# Altium integrated library Linear Technology Power Management Power Control.IntLib: 661 symbols (part 14 of 43)
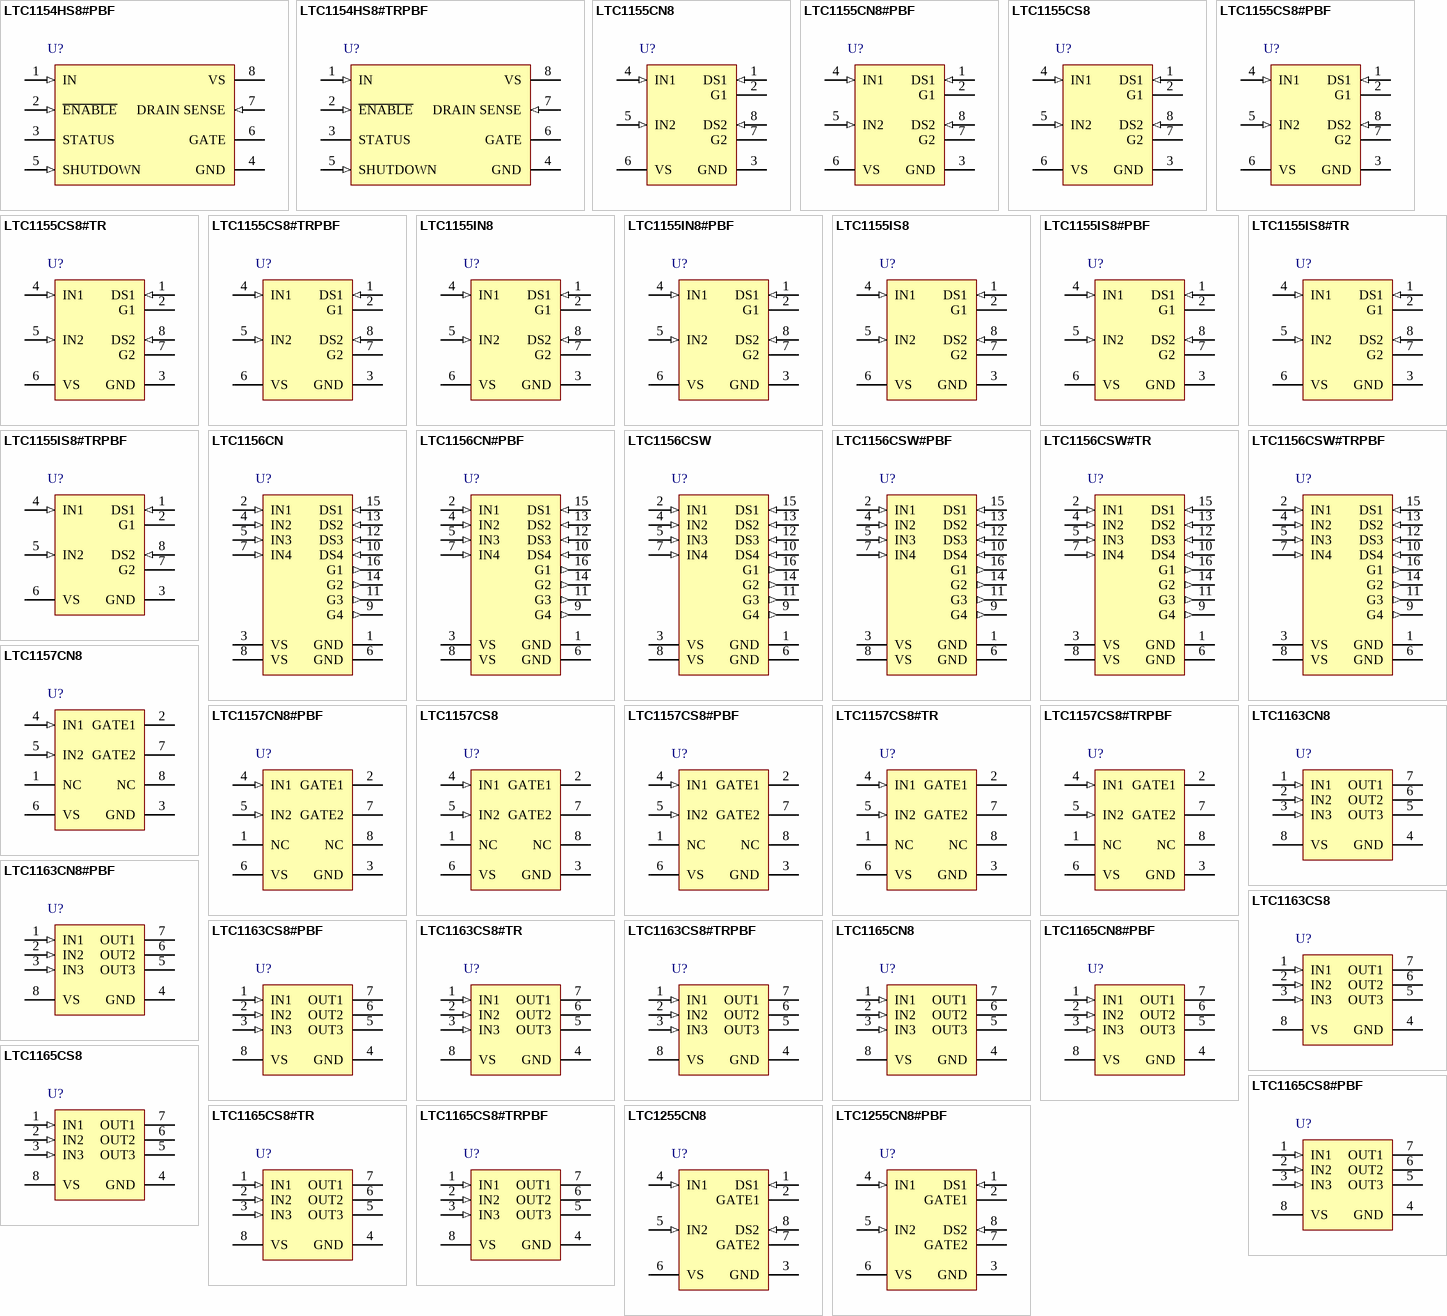
[diagram p32: symbols LTC1154HS8#PBF to LTC1255CN8#PBF]

## LTC1157CS8#TR
designator U?
3.3 V Dual Micropower High-Side / Low-Side MOSFET Driver, 7 V Vin MAX, 8-pin SOIC (S8-8), 0 to 70 degC, Tape and Reel; Manufacturer: Linear Technology; PartNumber: LTC1157CS8#TR; DatasheetVersion: Rev. 0; PackageVersion: Rev. G, 03/2012; PackageReference: S8-8; PackageDescription: 8-Pin Plastic Small Outline (Narrow .150 Inch), Body 4.9 x 3.9 mm, Pitch 1.27 mm; Supplier 1: Digi-Key; Supplier Part Number 1: LTC1157CS8#TR-ND; Packing: Tape and Reel; RoHS: FALSE; Mounting Technology: Surface Mount; ComponentLink1Description: Manufacturer URL; ComponentLink1URL: http://www.linear.com/; ComponentLink2Description: Datasheet; ComponentLink2URL: http://cds.linear.com/docs/en/datasheet/lt1157.pdf; ComponentLink3Description: Package Specification; ComponentLink3URL: http://cds.linear.com/docs/en/packaging/05081610_G_SO8.pdf
footprint LT-S8-8_N (SOIC, 8-Leads, Body 5x4mm, Pitch 1.27mm, IPC Medium Density)
footprint LT-S8-8_L (SOIC, 8-Leads, Body 5x4mm, Pitch 1.27mm, IPC High Density)
footprint LT-S8-8_M (SOIC, 8-Leads, Body 5x4mm, Pitch 1.27mm, IPC Low Density)
pins: 1 NC "The drain sense pin is compared against the supply pin voltage. If the voltage at this pin is more than 100mV below the supply pin, the input latch will be reset and the MOSFET gate will be quickly discharged. Cycle the (See Datasheet)", 2 GATE1 (hiz) "The gate drive pin is either driven to ground when the switch is turned OFF or driven above the supply rail when the switch is turned ON. This pin is a relatively high impedance when driven above the rail (the equivalent of (See Datasheet)", 3 GND (power), 4 IN1 (in) "The LTC1157 input pins are active high and activate the charge pump circuitry when switched ON. The LTC1157 logic inputs are high impedance CMOS gates with ESD protection diodes to ground and supply and therefore should not (See Datasheet)", 5 IN2 (in) "The LTC1157 input pins are active high and activate the charge pump circuitry when switched ON. The LTC1157 logic inputs are high impedance CMOS gates with ESD protection diodes to ground and supply and therefore should not (See Datasheet)", 6 VS (power) "The supply pin of the LTC1157 should never be forced below ground as this may result in permanent damage to the device. A 300 ohm resistor should be inserted in series with the ground pin if negative supply voltage (See Datasheet)", 7 GATE2 (hiz) "The gate drive pin is either driven to ground when the switch is turned OFF or driven above the supply rail when the switch is turned ON. This pin is a relatively high impedance when driven above the rail (the equivalent of (See Datasheet)", 8 NC "The drain sense pin is compared against the supply pin voltage. If the voltage at this pin is more than 100mV below the supply pin, the input latch will be reset and the MOSFET gate will be quickly discharged. Cycle the (See Datasheet)"

## LTC1157CS8#TRPBF
designator U?
3.3 V Dual Micropower High-Side / Low-Side MOSFET Driver, 7 V Vin MAX, 8-pin SOIC (S8-8), 0 to 70 degC, Pb-Free, Tape and Reel; Manufacturer: Linear Technology; PartNumber: LTC1157CS8#TRPBF; DatasheetVersion: Rev. 0; PackageVersion: Rev. G, 03/2012; PackageReference: S8-8; PackageDescription: 8-Pin Plastic Small Outline (Narrow .150 Inch), Body 4.9 x 3.9 mm, Pitch 1.27 mm; Supplier 1: Digi-Key; Supplier Part Number 1: LTC1157CS8#TRPBF-ND; Packing: Tape and Reel; RoHS: TRUE; Mounting Technology: Surface Mount; ComponentLink1Description: Manufacturer URL; ComponentLink1URL: http://www.linear.com/; ComponentLink2Description: Datasheet; ComponentLink2URL: http://cds.linear.com/docs/en/datasheet/lt1157.pdf; ComponentLink3Description: Package Specification; ComponentLink3URL: http://cds.linear.com/docs/en/packaging/05081610_G_SO8.pdf
footprint LT-S8-8_N (SOIC, 8-Leads, Body 5x4mm, Pitch 1.27mm, IPC Medium Density)
footprint LT-S8-8_L (SOIC, 8-Leads, Body 5x4mm, Pitch 1.27mm, IPC High Density)
footprint LT-S8-8_M (SOIC, 8-Leads, Body 5x4mm, Pitch 1.27mm, IPC Low Density)
pins: 1 NC "The drain sense pin is compared against the supply pin voltage. If the voltage at this pin is more than 100mV below the supply pin, the input latch will be reset and the MOSFET gate will be quickly discharged. Cycle the (See Datasheet)", 2 GATE1 (hiz) "The gate drive pin is either driven to ground when the switch is turned OFF or driven above the supply rail when the switch is turned ON. This pin is a relatively high impedance when driven above the rail (the equivalent of (See Datasheet)", 3 GND (power), 4 IN1 (in) "The LTC1157 input pins are active high and activate the charge pump circuitry when switched ON. The LTC1157 logic inputs are high impedance CMOS gates with ESD protection diodes to ground and supply and therefore should not (See Datasheet)", 5 IN2 (in) "The LTC1157 input pins are active high and activate the charge pump circuitry when switched ON. The LTC1157 logic inputs are high impedance CMOS gates with ESD protection diodes to ground and supply and therefore should not (See Datasheet)", 6 VS (power) "The supply pin of the LTC1157 should never be forced below ground as this may result in permanent damage to the device. A 300 ohm resistor should be inserted in series with the ground pin if negative supply voltage (See Datasheet)", 7 GATE2 (hiz) "The gate drive pin is either driven to ground when the switch is turned OFF or driven above the supply rail when the switch is turned ON. This pin is a relatively high impedance when driven above the rail (the equivalent of (See Datasheet)", 8 NC "The drain sense pin is compared against the supply pin voltage. If the voltage at this pin is more than 100mV below the supply pin, the input latch will be reset and the MOSFET gate will be quickly discharged. Cycle the (See Datasheet)"

## LTC1163CN8
designator U?
Triple High-Side MOSFET Driver, 6 V Vin MAX, 8-pin DIP (N8-8), 0 to 70 degC; Manufacturer: Linear Technology; PartNumber: LTC1163CN8; DatasheetVersion: Rev. 0; PackageVersion: Rev. I, 07/2011; PackageReference: N8-8; PackageDescription: 8-Pin PDIP, Body 10.16 x 6.48 mm, Pitch 2.54 mm; RoHS: FALSE; Mounting Technology: Through Hole; ComponentLink1Description: Manufacturer URL; ComponentLink1URL: http://www.linear.com/; ComponentLink2Description: Datasheet; ComponentLink2URL: http://cds.linear.com/docs/en/datasheet/lt1163.pdf; ComponentLink3Description: Package Specification; ComponentLink3URL: http://www.linear.com/docs/en/packaging/05081510_I_N8.pdf
footprint LT-N8-8 (DIP, 8-Leads, Body 10.15x6.85mm, Pitch 2.54mm)
pins: 1 IN1 (in) "The LTC1163 is noninverting; i.e., the MOSFET gate is driven above the supply when the input pin is held high. The LTC1165 is inverting and drives the MOSFET gate high when the input pin is held low. The inverting inputs of (See Datasheet)", 2 IN2 (in) "The LTC1163 is noninverting; i.e., the MOSFET gate is driven above the supply when the input pin is held high. The LTC1165 is inverting and drives the MOSFET gate high when the input pin is held low. The inverting inputs of (See Datasheet)", 3 IN3 (in) "The LTC1163 is noninverting; i.e., the MOSFET gate is driven above the supply when the input pin is held high. The LTC1165 is inverting and drives the MOSFET gate high when the input pin is held low. The inverting inputs of (See Datasheet)", 4 GND (power) "A 150ohm resistor should be inserted in series with the ground pin or supply pin if negative supply voltage transients are anticipated. This will limit the current flowing from the power source into the LTC1163/LTC1165 to (See Datasheet)", 5 OUT3 (hiz) "The output pin is either driven to ground when the switch is turned OFF or driven above the supply rail when the switch is turned ON. The output is clamped to about 14V above ground by a built-in Zener clamp. This pin has a (See Datasheet)", 6 OUT2 (hiz) "The output pin is either driven to ground when the switch is turned OFF or driven above the supply rail when the switch is turned ON. The output is clamped to about 14V above ground by a built-in Zener clamp. This pin has a (See Datasheet)", 7 OUT1 (hiz) "The output pin is either driven to ground when the switch is turned OFF or driven above the supply rail when the switch is turned ON. The output is clamped to about 14V above ground by a built-in Zener clamp. This pin has a (See Datasheet)", 8 VS (power) "A 150ohm resistor should be inserted in series with the ground pin or supply pin if negative supply voltage transients are anticipated. This will limit the current flowing from the power source into the LTC1163/LTC1165 to (See Datasheet)"

## LTC1163CN8#PBF
designator U?
Triple High-Side MOSFET Driver, 6 V Vin MAX, 8-pin DIP (N8-8), 0 to 70 degC, Pb-Free; Manufacturer: Linear Technology; PartNumber: LTC1163CN8#PBF; DatasheetVersion: Rev. 0; PackageVersion: Rev. I, 07/2011; PackageReference: N8-8; PackageDescription: 8-Pin PDIP, Body 10.16 x 6.48 mm, Pitch 2.54 mm; Supplier 1: Digi-Key; Supplier Part Number 1: LTC1163CN8#PBF-ND; RoHS: TRUE; Mounting Technology: Through Hole; ComponentLink1Description: Manufacturer URL; ComponentLink1URL: http://www.linear.com/; ComponentLink2Description: Datasheet; ComponentLink2URL: http://cds.linear.com/docs/en/datasheet/lt1163.pdf; ComponentLink3Description: Package Specification; ComponentLink3URL: http://www.linear.com/docs/en/packaging/05081510_I_N8.pdf
footprint LT-N8-8 (DIP, 8-Leads, Body 10.15x6.85mm, Pitch 2.54mm)
pins: 1 IN1 (in) "The LTC1163 is noninverting; i.e., the MOSFET gate is driven above the supply when the input pin is held high. The LTC1165 is inverting and drives the MOSFET gate high when the input pin is held low. The inverting inputs of (See Datasheet)", 2 IN2 (in) "The LTC1163 is noninverting; i.e., the MOSFET gate is driven above the supply when the input pin is held high. The LTC1165 is inverting and drives the MOSFET gate high when the input pin is held low. The inverting inputs of (See Datasheet)", 3 IN3 (in) "The LTC1163 is noninverting; i.e., the MOSFET gate is driven above the supply when the input pin is held high. The LTC1165 is inverting and drives the MOSFET gate high when the input pin is held low. The inverting inputs of (See Datasheet)", 4 GND (power) "A 150ohm resistor should be inserted in series with the ground pin or supply pin if negative supply voltage transients are anticipated. This will limit the current flowing from the power source into the LTC1163/LTC1165 to (See Datasheet)", 5 OUT3 (hiz) "The output pin is either driven to ground when the switch is turned OFF or driven above the supply rail when the switch is turned ON. The output is clamped to about 14V above ground by a built-in Zener clamp. This pin has a (See Datasheet)", 6 OUT2 (hiz) "The output pin is either driven to ground when the switch is turned OFF or driven above the supply rail when the switch is turned ON. The output is clamped to about 14V above ground by a built-in Zener clamp. This pin has a (See Datasheet)", 7 OUT1 (hiz) "The output pin is either driven to ground when the switch is turned OFF or driven above the supply rail when the switch is turned ON. The output is clamped to about 14V above ground by a built-in Zener clamp. This pin has a (See Datasheet)", 8 VS (power) "A 150ohm resistor should be inserted in series with the ground pin or supply pin if negative supply voltage transients are anticipated. This will limit the current flowing from the power source into the LTC1163/LTC1165 to (See Datasheet)"

## LTC1163CS8
designator U?
Triple High-Side MOSFET Driver, 6 V Vin MAX, 8-pin SOIC (S8-8), 0 to 70 degC; Manufacturer: Linear Technology; PartNumber: LTC1163CS8; DatasheetVersion: Rev. 0; PackageVersion: Rev. G, 03/2012; PackageReference: S8-8; PackageDescription: 8-Pin Plastic Small Outline (Narrow .150 Inch), Body 4.9 x 3.9 mm, Pitch 1.27 mm; Supplier 1: Digi-Key; Supplier Part Number 1: LTC1163CS8-ND; RoHS: FALSE; Mounting Technology: Surface Mount; ComponentLink1Description: Manufacturer URL; ComponentLink1URL: http://www.linear.com/; ComponentLink2Description: Datasheet; ComponentLink2URL: http://cds.linear.com/docs/en/datasheet/lt1163.pdf; ComponentLink3Description: Package Specification; ComponentLink3URL: http://cds.linear.com/docs/en/packaging/05081610_G_SO8.pdf
footprint LT-S8-8_N (SOIC, 8-Leads, Body 5x4mm, Pitch 1.27mm, IPC Medium Density)
footprint LT-S8-8_L (SOIC, 8-Leads, Body 5x4mm, Pitch 1.27mm, IPC High Density)
footprint LT-S8-8_M (SOIC, 8-Leads, Body 5x4mm, Pitch 1.27mm, IPC Low Density)
pins: 1 IN1 (in) "The LTC1163 is noninverting; i.e., the MOSFET gate is driven above the supply when the input pin is held high. The LTC1165 is inverting and drives the MOSFET gate high when the input pin is held low. The inverting inputs of (See Datasheet)", 2 IN2 (in) "The LTC1163 is noninverting; i.e., the MOSFET gate is driven above the supply when the input pin is held high. The LTC1165 is inverting and drives the MOSFET gate high when the input pin is held low. The inverting inputs of (See Datasheet)", 3 IN3 (in) "The LTC1163 is noninverting; i.e., the MOSFET gate is driven above the supply when the input pin is held high. The LTC1165 is inverting and drives the MOSFET gate high when the input pin is held low. The inverting inputs of (See Datasheet)", 4 GND (power) "A 150ohm resistor should be inserted in series with the ground pin or supply pin if negative supply voltage transients are anticipated. This will limit the current flowing from the power source into the LTC1163/LTC1165 to (See Datasheet)", 5 OUT3 (hiz) "The output pin is either driven to ground when the switch is turned OFF or driven above the supply rail when the switch is turned ON. The output is clamped to about 14V above ground by a built-in Zener clamp. This pin has a (See Datasheet)", 6 OUT2 (hiz) "The output pin is either driven to ground when the switch is turned OFF or driven above the supply rail when the switch is turned ON. The output is clamped to about 14V above ground by a built-in Zener clamp. This pin has a (See Datasheet)", 7 OUT1 (hiz) "The output pin is either driven to ground when the switch is turned OFF or driven above the supply rail when the switch is turned ON. The output is clamped to about 14V above ground by a built-in Zener clamp. This pin has a (See Datasheet)", 8 VS (power) "A 150ohm resistor should be inserted in series with the ground pin or supply pin if negative supply voltage transients are anticipated. This will limit the current flowing from the power source into the LTC1163/LTC1165 to (See Datasheet)"

## LTC1163CS8#PBF
designator U?
Triple High-Side MOSFET Driver, 6 V Vin MAX, 8-pin SOIC (S8-8), 0 to 70 degC, Pb-Free; Manufacturer: Linear Technology; PartNumber: LTC1163CS8#PBF; DatasheetVersion: Rev. 0; PackageVersion: Rev. G, 03/2012; PackageReference: S8-8; PackageDescription: 8-Pin Plastic Small Outline (Narrow .150 Inch), Body 4.9 x 3.9 mm, Pitch 1.27 mm; Supplier 1: Digi-Key; Supplier Part Number 1: LTC1163CS8#PBF-ND; Supplier 2: Farnell; Supplier Part Number 2: 1273509; Supplier 3: Newark; Supplier Part Number 3: 55M9501; RoHS: TRUE; Mounting Technology: Surface Mount; ComponentLink1Description: Manufacturer URL; ComponentLink1URL: http://www.linear.com/; ComponentLink2Description: Datasheet; ComponentLink2URL: http://cds.linear.com/docs/en/datasheet/lt1163.pdf; ComponentLink3Description: Package Specification; ComponentLink3URL: http://cds.linear.com/docs/en/packaging/05081610_G_SO8.pdf
footprint LT-S8-8_N (SOIC, 8-Leads, Body 5x4mm, Pitch 1.27mm, IPC Medium Density)
footprint LT-S8-8_L (SOIC, 8-Leads, Body 5x4mm, Pitch 1.27mm, IPC High Density)
footprint LT-S8-8_M (SOIC, 8-Leads, Body 5x4mm, Pitch 1.27mm, IPC Low Density)
pins: 1 IN1 (in) "The LTC1163 is noninverting; i.e., the MOSFET gate is driven above the supply when the input pin is held high. The LTC1165 is inverting and drives the MOSFET gate high when the input pin is held low. The inverting inputs of (See Datasheet)", 2 IN2 (in) "The LTC1163 is noninverting; i.e., the MOSFET gate is driven above the supply when the input pin is held high. The LTC1165 is inverting and drives the MOSFET gate high when the input pin is held low. The inverting inputs of (See Datasheet)", 3 IN3 (in) "The LTC1163 is noninverting; i.e., the MOSFET gate is driven above the supply when the input pin is held high. The LTC1165 is inverting and drives the MOSFET gate high when the input pin is held low. The inverting inputs of (See Datasheet)", 4 GND (power) "A 150ohm resistor should be inserted in series with the ground pin or supply pin if negative supply voltage transients are anticipated. This will limit the current flowing from the power source into the LTC1163/LTC1165 to (See Datasheet)", 5 OUT3 (hiz) "The output pin is either driven to ground when the switch is turned OFF or driven above the supply rail when the switch is turned ON. The output is clamped to about 14V above ground by a built-in Zener clamp. This pin has a (See Datasheet)", 6 OUT2 (hiz) "The output pin is either driven to ground when the switch is turned OFF or driven above the supply rail when the switch is turned ON. The output is clamped to about 14V above ground by a built-in Zener clamp. This pin has a (See Datasheet)", 7 OUT1 (hiz) "The output pin is either driven to ground when the switch is turned OFF or driven above the supply rail when the switch is turned ON. The output is clamped to about 14V above ground by a built-in Zener clamp. This pin has a (See Datasheet)", 8 VS (power) "A 150ohm resistor should be inserted in series with the ground pin or supply pin if negative supply voltage transients are anticipated. This will limit the current flowing from the power source into the LTC1163/LTC1165 to (See Datasheet)"

## LTC1163CS8#TR
designator U?
Triple High-Side MOSFET Driver, 6 V Vin MAX, 8-pin SOIC (S8-8), 0 to 70 degC, Tape and Reel; Manufacturer: Linear Technology; PartNumber: LTC1163CS8#TR; DatasheetVersion: Rev. 0; PackageVersion: Rev. G, 03/2012; PackageReference: S8-8; PackageDescription: 8-Pin Plastic Small Outline (Narrow .150 Inch), Body 4.9 x 3.9 mm, Pitch 1.27 mm; Supplier 1: Digi-Key; Supplier Part Number 1: LTC1163CS8#TR-ND; Packing: Tape and Reel; RoHS: FALSE; Mounting Technology: Surface Mount; ComponentLink1Description: Manufacturer URL; ComponentLink1URL: http://www.linear.com/; ComponentLink2Description: Datasheet; ComponentLink2URL: http://cds.linear.com/docs/en/datasheet/lt1163.pdf; ComponentLink3Description: Package Specification; ComponentLink3URL: http://cds.linear.com/docs/en/packaging/05081610_G_SO8.pdf
footprint LT-S8-8_N (SOIC, 8-Leads, Body 5x4mm, Pitch 1.27mm, IPC Medium Density)
footprint LT-S8-8_L (SOIC, 8-Leads, Body 5x4mm, Pitch 1.27mm, IPC High Density)
footprint LT-S8-8_M (SOIC, 8-Leads, Body 5x4mm, Pitch 1.27mm, IPC Low Density)
pins: 1 IN1 (in) "The LTC1163 is noninverting; i.e., the MOSFET gate is driven above the supply when the input pin is held high. The LTC1165 is inverting and drives the MOSFET gate high when the input pin is held low. The inverting inputs of (See Datasheet)", 2 IN2 (in) "The LTC1163 is noninverting; i.e., the MOSFET gate is driven above the supply when the input pin is held high. The LTC1165 is inverting and drives the MOSFET gate high when the input pin is held low. The inverting inputs of (See Datasheet)", 3 IN3 (in) "The LTC1163 is noninverting; i.e., the MOSFET gate is driven above the supply when the input pin is held high. The LTC1165 is inverting and drives the MOSFET gate high when the input pin is held low. The inverting inputs of (See Datasheet)", 4 GND (power) "A 150ohm resistor should be inserted in series with the ground pin or supply pin if negative supply voltage transients are anticipated. This will limit the current flowing from the power source into the LTC1163/LTC1165 to (See Datasheet)", 5 OUT3 (hiz) "The output pin is either driven to ground when the switch is turned OFF or driven above the supply rail when the switch is turned ON. The output is clamped to about 14V above ground by a built-in Zener clamp. This pin has a (See Datasheet)", 6 OUT2 (hiz) "The output pin is either driven to ground when the switch is turned OFF or driven above the supply rail when the switch is turned ON. The output is clamped to about 14V above ground by a built-in Zener clamp. This pin has a (See Datasheet)", 7 OUT1 (hiz) "The output pin is either driven to ground when the switch is turned OFF or driven above the supply rail when the switch is turned ON. The output is clamped to about 14V above ground by a built-in Zener clamp. This pin has a (See Datasheet)", 8 VS (power) "A 150ohm resistor should be inserted in series with the ground pin or supply pin if negative supply voltage transients are anticipated. This will limit the current flowing from the power source into the LTC1163/LTC1165 to (See Datasheet)"

## LTC1163CS8#TRPBF
designator U?
Triple High-Side MOSFET Driver, 6 V Vin MAX, 8-pin SOIC (S8-8), 0 to 70 degC, Pb-Free, Tape and Reel; Manufacturer: Linear Technology; PartNumber: LTC1163CS8#TRPBF; DatasheetVersion: Rev. 0; PackageVersion: Rev. G, 03/2012; PackageReference: S8-8; PackageDescription: 8-Pin Plastic Small Outline (Narrow .150 Inch), Body 4.9 x 3.9 mm, Pitch 1.27 mm; Supplier 1: Digi-Key; Supplier Part Number 1: LTC1163CS8#TRPBF-ND; Packing: Tape and Reel; RoHS: TRUE; Mounting Technology: Surface Mount; ComponentLink1Description: Manufacturer URL; ComponentLink1URL: http://www.linear.com/; ComponentLink2Description: Datasheet; ComponentLink2URL: http://cds.linear.com/docs/en/datasheet/lt1163.pdf; ComponentLink3Description: Package Specification; ComponentLink3URL: http://cds.linear.com/docs/en/packaging/05081610_G_SO8.pdf
footprint LT-S8-8_N (SOIC, 8-Leads, Body 5x4mm, Pitch 1.27mm, IPC Medium Density)
footprint LT-S8-8_L (SOIC, 8-Leads, Body 5x4mm, Pitch 1.27mm, IPC High Density)
footprint LT-S8-8_M (SOIC, 8-Leads, Body 5x4mm, Pitch 1.27mm, IPC Low Density)
pins: 1 IN1 (in) "The LTC1163 is noninverting; i.e., the MOSFET gate is driven above the supply when the input pin is held high. The LTC1165 is inverting and drives the MOSFET gate high when the input pin is held low. The inverting inputs of (See Datasheet)", 2 IN2 (in) "The LTC1163 is noninverting; i.e., the MOSFET gate is driven above the supply when the input pin is held high. The LTC1165 is inverting and drives the MOSFET gate high when the input pin is held low. The inverting inputs of (See Datasheet)", 3 IN3 (in) "The LTC1163 is noninverting; i.e., the MOSFET gate is driven above the supply when the input pin is held high. The LTC1165 is inverting and drives the MOSFET gate high when the input pin is held low. The inverting inputs of (See Datasheet)", 4 GND (power) "A 150ohm resistor should be inserted in series with the ground pin or supply pin if negative supply voltage transients are anticipated. This will limit the current flowing from the power source into the LTC1163/LTC1165 to (See Datasheet)", 5 OUT3 (hiz) "The output pin is either driven to ground when the switch is turned OFF or driven above the supply rail when the switch is turned ON. The output is clamped to about 14V above ground by a built-in Zener clamp. This pin has a (See Datasheet)", 6 OUT2 (hiz) "The output pin is either driven to ground when the switch is turned OFF or driven above the supply rail when the switch is turned ON. The output is clamped to about 14V above ground by a built-in Zener clamp. This pin has a (See Datasheet)", 7 OUT1 (hiz) "The output pin is either driven to ground when the switch is turned OFF or driven above the supply rail when the switch is turned ON. The output is clamped to about 14V above ground by a built-in Zener clamp. This pin has a (See Datasheet)", 8 VS (power) "A 150ohm resistor should be inserted in series with the ground pin or supply pin if negative supply voltage transients are anticipated. This will limit the current flowing from the power source into the LTC1163/LTC1165 to (See Datasheet)"

## LTC1165CN8
designator U?
Operates from 2 Cells, P-Channel Replacement, 6 V Vin MAX, 8-pin DIP (N8-8), 0 to 70 degC; Manufacturer: Linear Technology; PartNumber: LTC1165CN8; DatasheetVersion: Rev. 0; PackageVersion: Rev. I, 07/2011; PackageReference: N8-8; PackageDescription: 8-Pin PDIP, Body 10.16 x 6.48 mm, Pitch 2.54 mm; Supplier 1: Digi-Key; Supplier Part Number 1: LTC1165CN8-ND; RoHS: FALSE; Mounting Technology: Through Hole; ComponentLink1Description: Manufacturer URL; ComponentLink1URL: http://www.linear.com/; ComponentLink2Description: Datasheet; ComponentLink2URL: http://cds.linear.com/docs/en/datasheet/lt1163.pdf; ComponentLink3Description: Package Specification; ComponentLink3URL: http://www.linear.com/docs/en/packaging/05081510_I_N8.pdf
footprint LT-N8-8 (DIP, 8-Leads, Body 10.15x6.85mm, Pitch 2.54mm)
pins: 1 IN1 (in) "The LTC1163 is noninverting; i.e., the MOSFET gate is driven above the supply when the input pin is held high. The LTC1165 is inverting and drives the MOSFET gate high when the input pin is held low. The inverting inputs of (See Datasheet)", 2 IN2 (in) "The LTC1163 is noninverting; i.e., the MOSFET gate is driven above the supply when the input pin is held high. The LTC1165 is inverting and drives the MOSFET gate high when the input pin is held low. The inverting inputs of (See Datasheet)", 3 IN3 (in) "The LTC1163 is noninverting; i.e., the MOSFET gate is driven above the supply when the input pin is held high. The LTC1165 is inverting and drives the MOSFET gate high when the input pin is held low. The inverting inputs of (See Datasheet)", 4 GND (power) "A 150ohm resistor should be inserted in series with the ground pin or supply pin if negative supply voltage transients are anticipated. This will limit the current flowing from the power source into the LTC1163/LTC1165 to (See Datasheet)", 5 OUT3 (hiz) "The output pin is either driven to ground when the switch is turned OFF or driven above the supply rail when the switch is turned ON. The output is clamped to about 14V above ground by a built-in Zener clamp. This pin has a (See Datasheet)", 6 OUT2 (hiz) "The output pin is either driven to ground when the switch is turned OFF or driven above the supply rail when the switch is turned ON. The output is clamped to about 14V above ground by a built-in Zener clamp. This pin has a (See Datasheet)", 7 OUT1 (hiz) "The output pin is either driven to ground when the switch is turned OFF or driven above the supply rail when the switch is turned ON. The output is clamped to about 14V above ground by a built-in Zener clamp. This pin has a (See Datasheet)", 8 VS (power) "A 150ohm resistor should be inserted in series with the ground pin or supply pin if negative supply voltage transients are anticipated. This will limit the current flowing from the power source into the LTC1163/LTC1165 to (See Datasheet)"

## LTC1165CN8#PBF
designator U?
Operates from 2 Cells, P-Channel Replacement, 6 V Vin MAX, 8-pin DIP (N8-8), 0 to 70 degC, Pb-Free; Manufacturer: Linear Technology; PartNumber: LTC1165CN8#PBF; DatasheetVersion: Rev. 0; PackageVersion: Rev. I, 07/2011; PackageReference: N8-8; PackageDescription: 8-Pin PDIP, Body 10.16 x 6.48 mm, Pitch 2.54 mm; Supplier 1: Digi-Key; Supplier Part Number 1: LTC1165CN8#PBF-ND; RoHS: TRUE; Mounting Technology: Through Hole; ComponentLink1Description: Manufacturer URL; ComponentLink1URL: http://www.linear.com/; ComponentLink2Description: Datasheet; ComponentLink2URL: http://cds.linear.com/docs/en/datasheet/lt1163.pdf; ComponentLink3Description: Package Specification; ComponentLink3URL: http://www.linear.com/docs/en/packaging/05081510_I_N8.pdf
footprint LT-N8-8 (DIP, 8-Leads, Body 10.15x6.85mm, Pitch 2.54mm)
pins: 1 IN1 (in) "The LTC1163 is noninverting; i.e., the MOSFET gate is driven above the supply when the input pin is held high. The LTC1165 is inverting and drives the MOSFET gate high when the input pin is held low. The inverting inputs of (See Datasheet)", 2 IN2 (in) "The LTC1163 is noninverting; i.e., the MOSFET gate is driven above the supply when the input pin is held high. The LTC1165 is inverting and drives the MOSFET gate high when the input pin is held low. The inverting inputs of (See Datasheet)", 3 IN3 (in) "The LTC1163 is noninverting; i.e., the MOSFET gate is driven above the supply when the input pin is held high. The LTC1165 is inverting and drives the MOSFET gate high when the input pin is held low. The inverting inputs of (See Datasheet)", 4 GND (power) "A 150ohm resistor should be inserted in series with the ground pin or supply pin if negative supply voltage transients are anticipated. This will limit the current flowing from the power source into the LTC1163/LTC1165 to (See Datasheet)", 5 OUT3 (hiz) "The output pin is either driven to ground when the switch is turned OFF or driven above the supply rail when the switch is turned ON. The output is clamped to about 14V above ground by a built-in Zener clamp. This pin has a (See Datasheet)", 6 OUT2 (hiz) "The output pin is either driven to ground when the switch is turned OFF or driven above the supply rail when the switch is turned ON. The output is clamped to about 14V above ground by a built-in Zener clamp. This pin has a (See Datasheet)", 7 OUT1 (hiz) "The output pin is either driven to ground when the switch is turned OFF or driven above the supply rail when the switch is turned ON. The output is clamped to about 14V above ground by a built-in Zener clamp. This pin has a (See Datasheet)", 8 VS (power) "A 150ohm resistor should be inserted in series with the ground pin or supply pin if negative supply voltage transients are anticipated. This will limit the current flowing from the power source into the LTC1163/LTC1165 to (See Datasheet)"

## LTC1165CS8
designator U?
Operates from 2 Cells, P-Channel Replacement, 6 V Vin MAX, 8-pin SOIC (S8-8), 0 to 70 degC; Manufacturer: Linear Technology; PartNumber: LTC1165CS8; DatasheetVersion: Rev. 0; PackageVersion: Rev. G, 03/2012; PackageReference: S8-8; PackageDescription: 8-Pin Plastic Small Outline (Narrow .150 Inch), Body 4.9 x 3.9 mm, Pitch 1.27 mm; Supplier 1: Digi-Key; Supplier Part Number 1: LTC1165CS8-ND; RoHS: FALSE; Mounting Technology: Surface Mount; ComponentLink1Description: Manufacturer URL; ComponentLink1URL: http://www.linear.com/; ComponentLink2Description: Datasheet; ComponentLink2URL: http://cds.linear.com/docs/en/datasheet/lt1163.pdf; ComponentLink3Description: Package Specification; ComponentLink3URL: http://cds.linear.com/docs/en/packaging/05081610_G_SO8.pdf
footprint LT-S8-8_N (SOIC, 8-Leads, Body 5x4mm, Pitch 1.27mm, IPC Medium Density)
footprint LT-S8-8_L (SOIC, 8-Leads, Body 5x4mm, Pitch 1.27mm, IPC High Density)
footprint LT-S8-8_M (SOIC, 8-Leads, Body 5x4mm, Pitch 1.27mm, IPC Low Density)
pins: 1 IN1 (in) "The LTC1163 is noninverting; i.e., the MOSFET gate is driven above the supply when the input pin is held high. The LTC1165 is inverting and drives the MOSFET gate high when the input pin is held low. The inverting inputs of (See Datasheet)", 2 IN2 (in) "The LTC1163 is noninverting; i.e., the MOSFET gate is driven above the supply when the input pin is held high. The LTC1165 is inverting and drives the MOSFET gate high when the input pin is held low. The inverting inputs of (See Datasheet)", 3 IN3 (in) "The LTC1163 is noninverting; i.e., the MOSFET gate is driven above the supply when the input pin is held high. The LTC1165 is inverting and drives the MOSFET gate high when the input pin is held low. The inverting inputs of (See Datasheet)", 4 GND (power) "A 150ohm resistor should be inserted in series with the ground pin or supply pin if negative supply voltage transients are anticipated. This will limit the current flowing from the power source into the LTC1163/LTC1165 to (See Datasheet)", 5 OUT3 (hiz) "The output pin is either driven to ground when the switch is turned OFF or driven above the supply rail when the switch is turned ON. The output is clamped to about 14V above ground by a built-in Zener clamp. This pin has a (See Datasheet)", 6 OUT2 (hiz) "The output pin is either driven to ground when the switch is turned OFF or driven above the supply rail when the switch is turned ON. The output is clamped to about 14V above ground by a built-in Zener clamp. This pin has a (See Datasheet)", 7 OUT1 (hiz) "The output pin is either driven to ground when the switch is turned OFF or driven above the supply rail when the switch is turned ON. The output is clamped to about 14V above ground by a built-in Zener clamp. This pin has a (See Datasheet)", 8 VS (power) "A 150ohm resistor should be inserted in series with the ground pin or supply pin if negative supply voltage transients are anticipated. This will limit the current flowing from the power source into the LTC1163/LTC1165 to (See Datasheet)"

## LTC1165CS8#PBF
designator U?
Operates from 2 Cells, P-Channel Replacement, 6 V Vin MAX, 8-pin SOIC (S8-8), 0 to 70 degC, Pb-Free; Manufacturer: Linear Technology; PartNumber: LTC1165CS8#PBF; DatasheetVersion: Rev. 0; PackageVersion: Rev. G, 03/2012; PackageReference: S8-8; PackageDescription: 8-Pin Plastic Small Outline (Narrow .150 Inch), Body 4.9 x 3.9 mm, Pitch 1.27 mm; Supplier 1: Digi-Key; Supplier Part Number 1: LTC1165CS8#PBF-ND; RoHS: TRUE; Mounting Technology: Surface Mount; ComponentLink1Description: Manufacturer URL; ComponentLink1URL: http://www.linear.com/; ComponentLink2Description: Datasheet; ComponentLink2URL: http://cds.linear.com/docs/en/datasheet/lt1163.pdf; ComponentLink3Description: Package Specification; ComponentLink3URL: http://cds.linear.com/docs/en/packaging/05081610_G_SO8.pdf
footprint LT-S8-8_N (SOIC, 8-Leads, Body 5x4mm, Pitch 1.27mm, IPC Medium Density)
footprint LT-S8-8_L (SOIC, 8-Leads, Body 5x4mm, Pitch 1.27mm, IPC High Density)
footprint LT-S8-8_M (SOIC, 8-Leads, Body 5x4mm, Pitch 1.27mm, IPC Low Density)
pins: 1 IN1 (in) "The LTC1163 is noninverting; i.e., the MOSFET gate is driven above the supply when the input pin is held high. The LTC1165 is inverting and drives the MOSFET gate high when the input pin is held low. The inverting inputs of (See Datasheet)", 2 IN2 (in) "The LTC1163 is noninverting; i.e., the MOSFET gate is driven above the supply when the input pin is held high. The LTC1165 is inverting and drives the MOSFET gate high when the input pin is held low. The inverting inputs of (See Datasheet)", 3 IN3 (in) "The LTC1163 is noninverting; i.e., the MOSFET gate is driven above the supply when the input pin is held high. The LTC1165 is inverting and drives the MOSFET gate high when the input pin is held low. The inverting inputs of (See Datasheet)", 4 GND (power) "A 150ohm resistor should be inserted in series with the ground pin or supply pin if negative supply voltage transients are anticipated. This will limit the current flowing from the power source into the LTC1163/LTC1165 to (See Datasheet)", 5 OUT3 (hiz) "The output pin is either driven to ground when the switch is turned OFF or driven above the supply rail when the switch is turned ON. The output is clamped to about 14V above ground by a built-in Zener clamp. This pin has a (See Datasheet)", 6 OUT2 (hiz) "The output pin is either driven to ground when the switch is turned OFF or driven above the supply rail when the switch is turned ON. The output is clamped to about 14V above ground by a built-in Zener clamp. This pin has a (See Datasheet)", 7 OUT1 (hiz) "The output pin is either driven to ground when the switch is turned OFF or driven above the supply rail when the switch is turned ON. The output is clamped to about 14V above ground by a built-in Zener clamp. This pin has a (See Datasheet)", 8 VS (power) "A 150ohm resistor should be inserted in series with the ground pin or supply pin if negative supply voltage transients are anticipated. This will limit the current flowing from the power source into the LTC1163/LTC1165 to (See Datasheet)"

## LTC1165CS8#TR
designator U?
Operates from 2 Cells, P-Channel Replacement, 6 V Vin MAX, 8-pin SOIC (S8-8), 0 to 70 degC, Tape and Reel; Manufacturer: Linear Technology; PartNumber: LTC1165CS8#TR; DatasheetVersion: Rev. 0; PackageVersion: Rev. G, 03/2012; PackageReference: S8-8; PackageDescription: 8-Pin Plastic Small Outline (Narrow .150 Inch), Body 4.9 x 3.9 mm, Pitch 1.27 mm; Supplier 1: Digi-Key; Supplier Part Number 1: LTC1165CS8#TR-ND; Packing: Tape and Reel; RoHS: FALSE; Mounting Technology: Surface Mount; ComponentLink1Description: Manufacturer URL; ComponentLink1URL: http://www.linear.com/; ComponentLink2Description: Datasheet; ComponentLink2URL: http://cds.linear.com/docs/en/datasheet/lt1163.pdf; ComponentLink3Description: Package Specification; ComponentLink3URL: http://cds.linear.com/docs/en/packaging/05081610_G_SO8.pdf
footprint LT-S8-8_N (SOIC, 8-Leads, Body 5x4mm, Pitch 1.27mm, IPC Medium Density)
footprint LT-S8-8_L (SOIC, 8-Leads, Body 5x4mm, Pitch 1.27mm, IPC High Density)
footprint LT-S8-8_M (SOIC, 8-Leads, Body 5x4mm, Pitch 1.27mm, IPC Low Density)
pins: 1 IN1 (in) "The LTC1163 is noninverting; i.e., the MOSFET gate is driven above the supply when the input pin is held high. The LTC1165 is inverting and drives the MOSFET gate high when the input pin is held low. The inverting inputs of (See Datasheet)", 2 IN2 (in) "The LTC1163 is noninverting; i.e., the MOSFET gate is driven above the supply when the input pin is held high. The LTC1165 is inverting and drives the MOSFET gate high when the input pin is held low. The inverting inputs of (See Datasheet)", 3 IN3 (in) "The LTC1163 is noninverting; i.e., the MOSFET gate is driven above the supply when the input pin is held high. The LTC1165 is inverting and drives the MOSFET gate high when the input pin is held low. The inverting inputs of (See Datasheet)", 4 GND (power) "A 150ohm resistor should be inserted in series with the ground pin or supply pin if negative supply voltage transients are anticipated. This will limit the current flowing from the power source into the LTC1163/LTC1165 to (See Datasheet)", 5 OUT3 (hiz) "The output pin is either driven to ground when the switch is turned OFF or driven above the supply rail when the switch is turned ON. The output is clamped to about 14V above ground by a built-in Zener clamp. This pin has a (See Datasheet)", 6 OUT2 (hiz) "The output pin is either driven to ground when the switch is turned OFF or driven above the supply rail when the switch is turned ON. The output is clamped to about 14V above ground by a built-in Zener clamp. This pin has a (See Datasheet)", 7 OUT1 (hiz) "The output pin is either driven to ground when the switch is turned OFF or driven above the supply rail when the switch is turned ON. The output is clamped to about 14V above ground by a built-in Zener clamp. This pin has a (See Datasheet)", 8 VS (power) "A 150ohm resistor should be inserted in series with the ground pin or supply pin if negative supply voltage transients are anticipated. This will limit the current flowing from the power source into the LTC1163/LTC1165 to (See Datasheet)"

## LTC1165CS8#TRPBF
designator U?
Operates from 2 Cells, P-Channel Replacement, 6 V Vin MAX, 8-pin SOIC (S8-8), 0 to 70 degC, Pb-Free, Tape and Reel; Manufacturer: Linear Technology; PartNumber: LTC1165CS8#TRPBF; DatasheetVersion: Rev. 0; PackageVersion: Rev. G, 03/2012; PackageReference: S8-8; PackageDescription: 8-Pin Plastic Small Outline (Narrow .150 Inch), Body 4.9 x 3.9 mm, Pitch 1.27 mm; Supplier 1: Digi-Key; Supplier Part Number 1: LTC1165CS8#TRPBF-ND; Packing: Tape and Reel; RoHS: TRUE; Mounting Technology: Surface Mount; ComponentLink1Description: Manufacturer URL; ComponentLink1URL: http://www.linear.com/; ComponentLink2Description: Datasheet; ComponentLink2URL: http://cds.linear.com/docs/en/datasheet/lt1163.pdf; ComponentLink3Description: Package Specification; ComponentLink3URL: http://cds.linear.com/docs/en/packaging/05081610_G_SO8.pdf
footprint LT-S8-8_N (SOIC, 8-Leads, Body 5x4mm, Pitch 1.27mm, IPC Medium Density)
footprint LT-S8-8_L (SOIC, 8-Leads, Body 5x4mm, Pitch 1.27mm, IPC High Density)
footprint LT-S8-8_M (SOIC, 8-Leads, Body 5x4mm, Pitch 1.27mm, IPC Low Density)
pins: 1 IN1 (in) "The LTC1163 is noninverting; i.e., the MOSFET gate is driven above the supply when the input pin is held high. The LTC1165 is inverting and drives the MOSFET gate high when the input pin is held low. The inverting inputs of (See Datasheet)", 2 IN2 (in) "The LTC1163 is noninverting; i.e., the MOSFET gate is driven above the supply when the input pin is held high. The LTC1165 is inverting and drives the MOSFET gate high when the input pin is held low. The inverting inputs of (See Datasheet)", 3 IN3 (in) "The LTC1163 is noninverting; i.e., the MOSFET gate is driven above the supply when the input pin is held high. The LTC1165 is inverting and drives the MOSFET gate high when the input pin is held low. The inverting inputs of (See Datasheet)", 4 GND (power) "A 150ohm resistor should be inserted in series with the ground pin or supply pin if negative supply voltage transients are anticipated. This will limit the current flowing from the power source into the LTC1163/LTC1165 to (See Datasheet)", 5 OUT3 (hiz) "The output pin is either driven to ground when the switch is turned OFF or driven above the supply rail when the switch is turned ON. The output is clamped to about 14V above ground by a built-in Zener clamp. This pin has a (See Datasheet)", 6 OUT2 (hiz) "The output pin is either driven to ground when the switch is turned OFF or driven above the supply rail when the switch is turned ON. The output is clamped to about 14V above ground by a built-in Zener clamp. This pin has a (See Datasheet)", 7 OUT1 (hiz) "The output pin is either driven to ground when the switch is turned OFF or driven above the supply rail when the switch is turned ON. The output is clamped to about 14V above ground by a built-in Zener clamp. This pin has a (See Datasheet)", 8 VS (power) "A 150ohm resistor should be inserted in series with the ground pin or supply pin if negative supply voltage transients are anticipated. This will limit the current flowing from the power source into the LTC1163/LTC1165 to (See Datasheet)"

## LTC1255CN8
designator U?
Dual 24 V High-Side MOSFET Driver, -0.3 to 30 V Vin, 8-pin DIP (N8-8), 0 to 70 degC; Manufacturer: Linear Technology; PartNumber: LTC1255CN8; DatasheetVersion: Rev. 0; PackageVersion: Rev. I, 07/2011; PackageReference: N8-8; PackageDescription: 8-Pin PDIP, Body 10.16 x 6.48 mm, Pitch 2.54 mm; Supplier 1: Digi-Key; Supplier Part Number 1: LTC1255CN8-ND; RoHS: FALSE; Mounting Technology: Through Hole; ComponentLink1Description: Manufacturer URL; ComponentLink1URL: http://www.linear.com/; ComponentLink2Description: Datasheet; ComponentLink2URL: http://cds.linear.com/docs/en/datasheet/lt1255.pdf; ComponentLink3Description: Package Specification; ComponentLink3URL: http://www.linear.com/docs/en/packaging/05081510_I_N8.pdf
footprint LT-N8-8 (DIP, 8-Leads, Body 10.15x6.85mm, Pitch 2.54mm)
pins: 1 DS1 (in) "The drain sense pin is compared against the supply pin voltage. If the voltage at this pin is more than 100mV below the supply pin, the input latch will be reset and the MOSFET gate will be quickly discharged. Cycle the (See Datasheet)", 2 GATE1 (hiz) "The gate drive pin is either driven to ground when the switch is turned OFF or driven above the supply rail when the switch is turned ON. This pin is of relatively high impedance when driven above the rail (the equivalent of (See Datasheet)", 3 GND (power), 4 IN1 (in) "The LTC1255 input pin is active high and activates all of the protection and charge pump circuitry when switched ON. The LTC1255 logic and shutdown inputs are high impedance CMOS gates with ESD protection diodes to ground (See Datasheet)", 5 IN2 (in) "The LTC1255 input pin is active high and activates all of the protection and charge pump circuitry when switched ON. The LTC1255 logic and shutdown inputs are high impedance CMOS gates with ESD protection diodes to ground (See Datasheet)", 6 VS (power) "The supply pin of the LTC1255 serves two vital purposes. The first is obvious; it powers the input, gate drive, regulation and protection circuitry. The second purpose is less obvious; it provides a Kelvin connection to the (See Datasheet)", 7 GATE2 (hiz) "The gate drive pin is either driven to ground when the switch is turned OFF or driven above the supply rail when the switch is turned ON. This pin is of relatively high impedance when driven above the rail (the equivalent of (See Datasheet)", 8 DS2 (in) "The drain sense pin is compared against the supply pin voltage. If the voltage at this pin is more than 100mV below the supply pin, the input latch will be reset and the MOSFET gate will be quickly discharged. Cycle the (See Datasheet)"

## LTC1255CN8#PBF
designator U?
Dual 24 V High-Side MOSFET Driver, -0.3 to 30 V Vin, 8-pin DIP (N8-8), 0 to 70 degC, Pb-Free; Manufacturer: Linear Technology; PartNumber: LTC1255CN8#PBF; DatasheetVersion: Rev. 0; PackageVersion: Rev. I, 07/2011; PackageReference: N8-8; PackageDescription: 8-Pin PDIP, Body 10.16 x 6.48 mm, Pitch 2.54 mm; Supplier 1: Digi-Key; Supplier Part Number 1: LTC1255CN8#PBF-ND; RoHS: TRUE; Mounting Technology: Through Hole; ComponentLink1Description: Manufacturer URL; ComponentLink1URL: http://www.linear.com/; ComponentLink2Description: Datasheet; ComponentLink2URL: http://cds.linear.com/docs/en/datasheet/lt1255.pdf; ComponentLink3Description: Package Specification; ComponentLink3URL: http://www.linear.com/docs/en/packaging/05081510_I_N8.pdf
footprint LT-N8-8 (DIP, 8-Leads, Body 10.15x6.85mm, Pitch 2.54mm)
pins: 1 DS1 (in) "The drain sense pin is compared against the supply pin voltage. If the voltage at this pin is more than 100mV below the supply pin, the input latch will be reset and the MOSFET gate will be quickly discharged. Cycle the (See Datasheet)", 2 GATE1 (hiz) "The gate drive pin is either driven to ground when the switch is turned OFF or driven above the supply rail when the switch is turned ON. This pin is of relatively high impedance when driven above the rail (the equivalent of (See Datasheet)", 3 GND (power), 4 IN1 (in) "The LTC1255 input pin is active high and activates all of the protection and charge pump circuitry when switched ON. The LTC1255 logic and shutdown inputs are high impedance CMOS gates with ESD protection diodes to ground (See Datasheet)", 5 IN2 (in) "The LTC1255 input pin is active high and activates all of the protection and charge pump circuitry when switched ON. The LTC1255 logic and shutdown inputs are high impedance CMOS gates with ESD protection diodes to ground (See Datasheet)", 6 VS (power) "The supply pin of the LTC1255 serves two vital purposes. The first is obvious; it powers the input, gate drive, regulation and protection circuitry. The second purpose is less obvious; it provides a Kelvin connection to the (See Datasheet)", 7 GATE2 (hiz) "The gate drive pin is either driven to ground when the switch is turned OFF or driven above the supply rail when the switch is turned ON. This pin is of relatively high impedance when driven above the rail (the equivalent of (See Datasheet)", 8 DS2 (in) "The drain sense pin is compared against the supply pin voltage. If the voltage at this pin is more than 100mV below the supply pin, the input latch will be reset and the MOSFET gate will be quickly discharged. Cycle the (See Datasheet)"

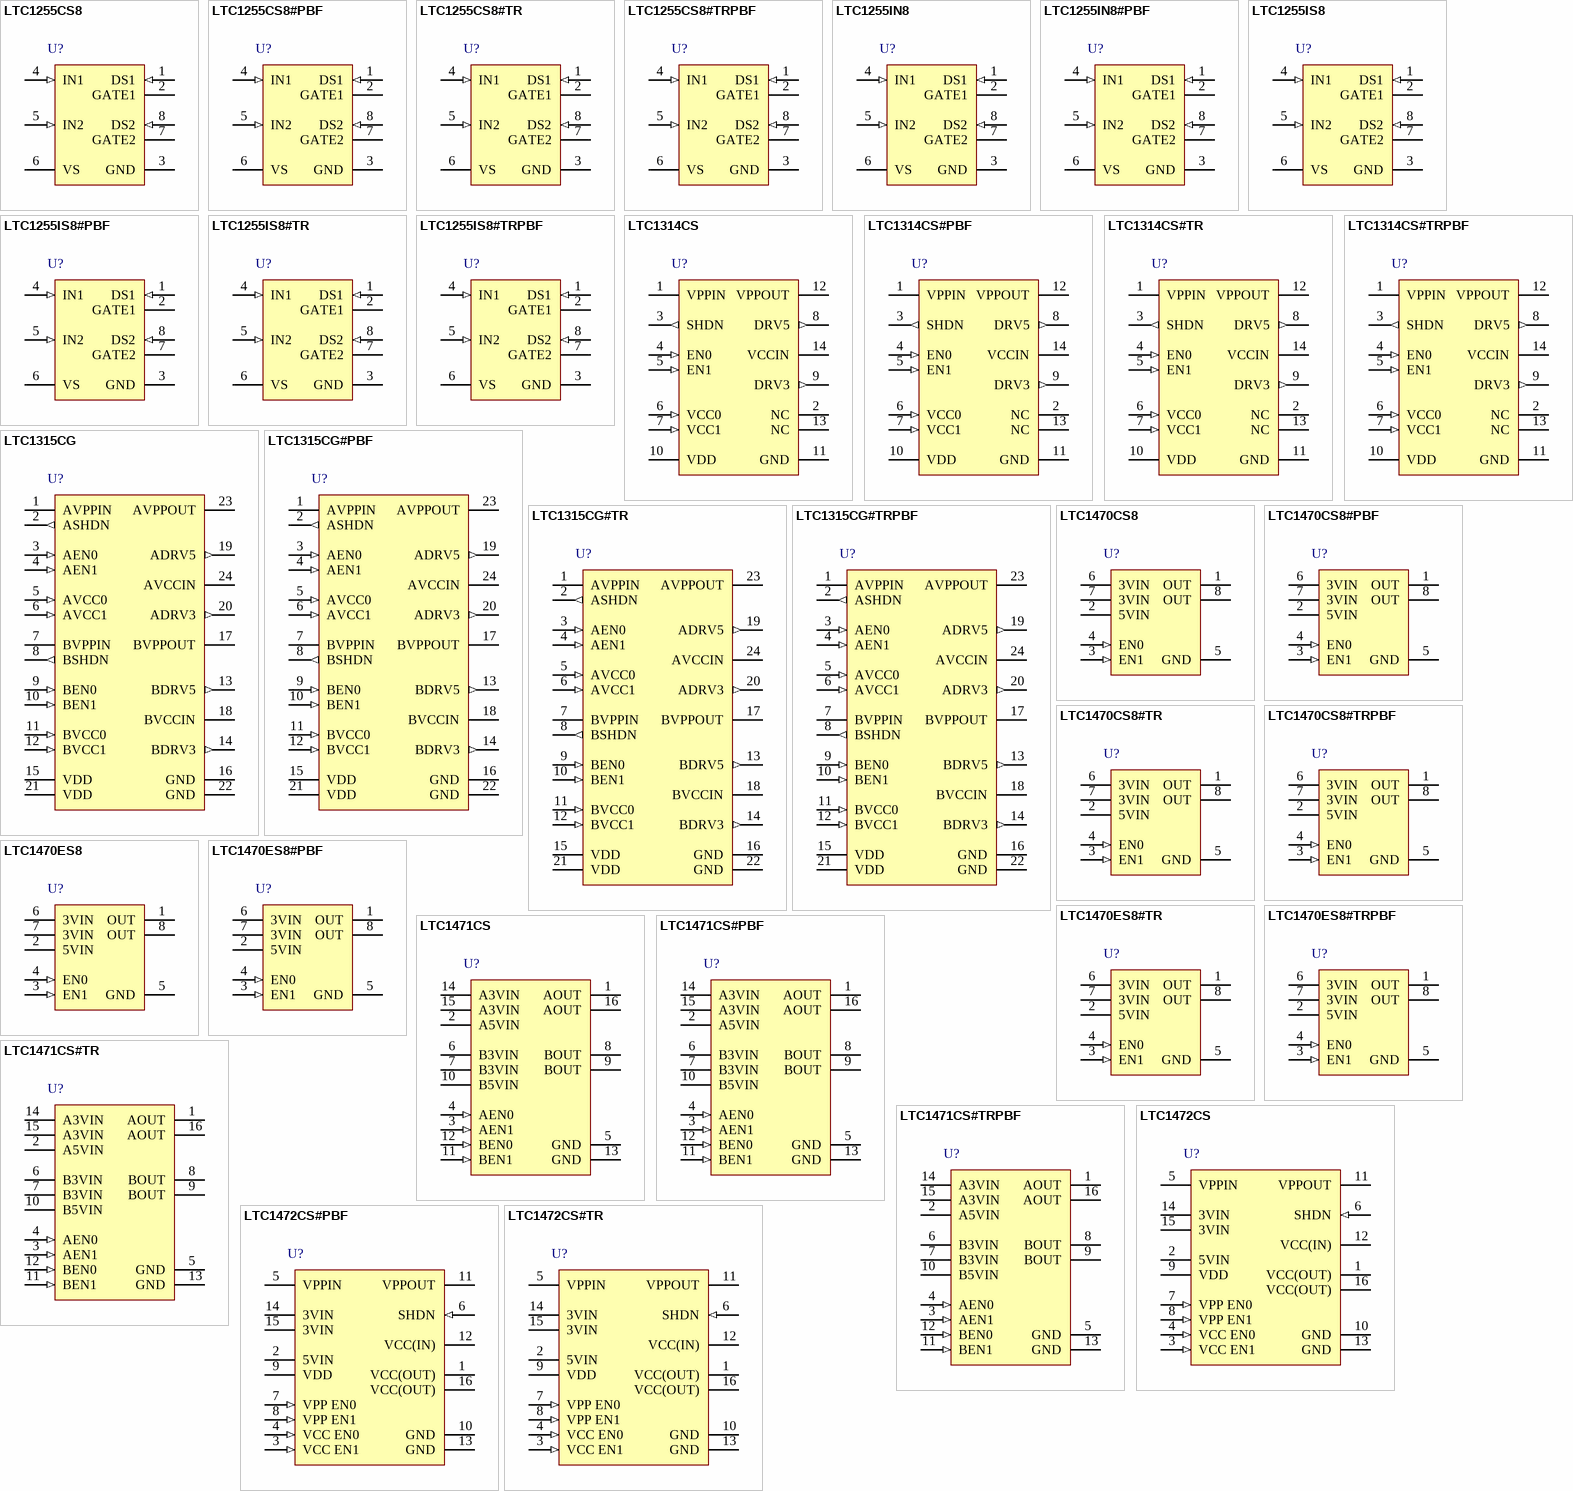
[diagram p7: symbols LTC1255CS8 to LTC1472CS#TR]